# Altium schematic symbol library Opto.SchLib: 4 symbols
Pins are listed as number, name and electrical type; pins without a type are passive.

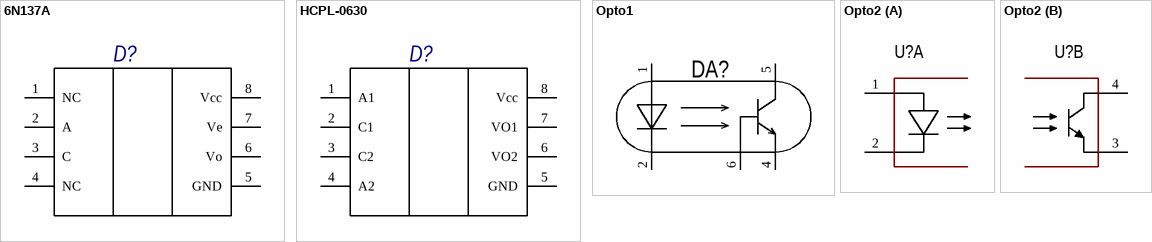
[diagram p0: symbols 6N137A to Opto2]

## 6N137A
designator D?
pins: 1 NC, 2 A, 3 C, 4 NC, 5 GND, 6 Vo, 7 Ve, 8 Vcc

## HCPL-0630
designator D?
pins: 1 A1, 2 C1, 3 C2, 4 A2, 5 GND, 6 VO2, 7 VO1, 8 Vcc

## Opto1
designator DA?
Оптопара; Type: Type
footprint 6-DIP (pitch 2.54 mm)
pins: 1 А, 2 K, 4 E, 5 C, 6 E

## Opto2
designator U?
Optoisolator
footprint 4-SMD (SOIC, 4-Leads, Body 4,60x6,50mm, Pitch 1,27mm, IPC Medium Density)
part A pins: 1 A, 2 C
part B pins: 3 E, 4 C
1 alternate drawing of the same symbol